# Altium schematic symbol library C1608X6S1C475K080AC.SchLib: 1 symbol
Pins are listed as number, name and electrical type; pins without a type are passive.

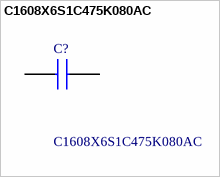
[diagram p0: symbol C1608X6S1C475K080AC]

## C1608X6S1C475K080AC
designator C?
MULTILAYER CERAMIC CHIP CAPACITORS, 1608, Commercial grade, general (Up to 75V); Manufacturer_Name: TDK; Geometry.Height: 0.8mm; Manufacturer_Part_Number: C1608X6S1C475K080AC; Mouser Part Number: 810-C1608X6S1C475K; Mouser Price/Stock: https://www.mouser.co.uk/ProductDetail/TDK/C1608X6S1C475K080AC?qs=dfay7wIA1uELNO4%252B8xvBDw%3D%3D; Arrow Part Number: C1608X6S1C475K080AC; Arrow Price/Stock: https://www.arrow.com/en/products/c1608x6s1c475k080ac/tdk?region=nac; Datasheet Link: https://product.tdk.com/info/en/catalog/datasheets/mlcc_commercial_midvoltage_en.pdf
footprint CAPC1608X80N
pins: 1, 2